# EAGLE library part BQ51013A (library Qi_Charger)
BQ51013A ~ Texas Intruments Qi Wireless Receiver
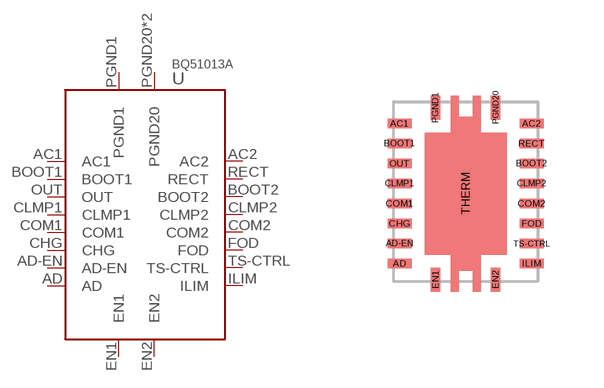
[diagram p0: symbol with the pads of BQ51013A; footprint BQ51013A]

Designator prefix U

## BQ51013A  [BQ51013A]
AC1  AC1
AC2  AC2
AD  AD
AD-EN  AD-EN
BOOT1  BOOT1
BOOT2  BOOT2
CHG  CHG
CLMP1  CLMP1
CLMP2  CLMP2
COM1  COM1
COM2  COM2
EN1  EN1
EN2  EN2
FOD  FOD
ILIM  ILIM
OUT  OUT
PGND1  PGND1
PGND20  PGND20
RECT  RECT
THERM  PGND20
TS-CTRL  TS-CTRL

## Footprint BQ51013A (pad centres in mm)
smd 0.6 x 0.24: AC1 -1.65,1.75; AC2 1.65,1.75; AD -1.65,-1.75; AD-EN -1.65,-1.25; BOOT1 -1.65,1.25; BOOT2 1.65,0.75; CHG -1.65,-0.75; CLMP1 -1.65,0.25; CLMP2 1.65,0.25; COM1 -1.65,-0.25; COM2 1.65,-0.25; FOD 1.65,-0.75; ILIM 1.65,-1.75; OUT -1.65,0.75; RECT 1.65,1.25; TS-CTRL 1.65,-1.25
smd 0.24 x 0.6: EN1 -0.75,-2.15; EN2 0.75,-2.15; PGND1 -0.75,2.15; PGND20 0.75,2.15
smd 0.4 x 0.8: THERM 0,0